# Altium schematic symbol library SnapEDAsch.SchLib: 1 symbol
Pins are listed as number, name and electrical type; pins without a type are passive.

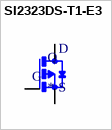
[diagram p0: symbol SI2323DS-T1-E3]

## SI2323DS-T1-E3
designator Q
P-Channel 20V 3.7A _Ta_ 750mW _Ta_ Surface Mount SOT-23-3 _TO-236_; MF: Vishay Siliconix; MP: SI2323DS-T1-E3; Value: *; Availability: Unavailable; Package: SOT-23-3 Vishay; Price: None; SnapEDA_Link: https://www.snapeda.com/parts/SI2323DS-T1-E3/Vishay%20Siliconix/view-part/1098076/?ref=snap
footprint SOT23
pins: 1 G, 2 S, 3 D